# Altium schematic symbol library R-78K5.0-1.0.SchLib: 1 symbol
Pins are listed as number, name and electrical type; pins without a type are passive.

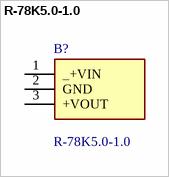
[diagram p0: symbol R-78K5.0-1.0]

## R-78K5.0-1.0
designator B?
1.0 Amp SIP3 Single Output; Manufacturer_Name: RECOM Power; Geometry.Height: 10.7mm; Mouser Part Number: 919-R-78K5.0-1.0; Mouser Price/Stock: https://www.mouser.co.uk/ProductDetail/RECOM-Power/R-78K5.0-1.0?qs=Jm2GQyTW%2Fbhzkh4G140JXg%3D%3D; Manufacturer_Part_Number: R-78K5.0-1.0; Datasheet Link: https://recom-power.com/pdf/Innoline/R-78K-1.0.pdf
footprint R78K5010
pins: 1 _+VIN, 2 GND, 3 +VOUT